# EAGLE library part OPAMP-DISCRETE-DOA (library ryans-common-components)
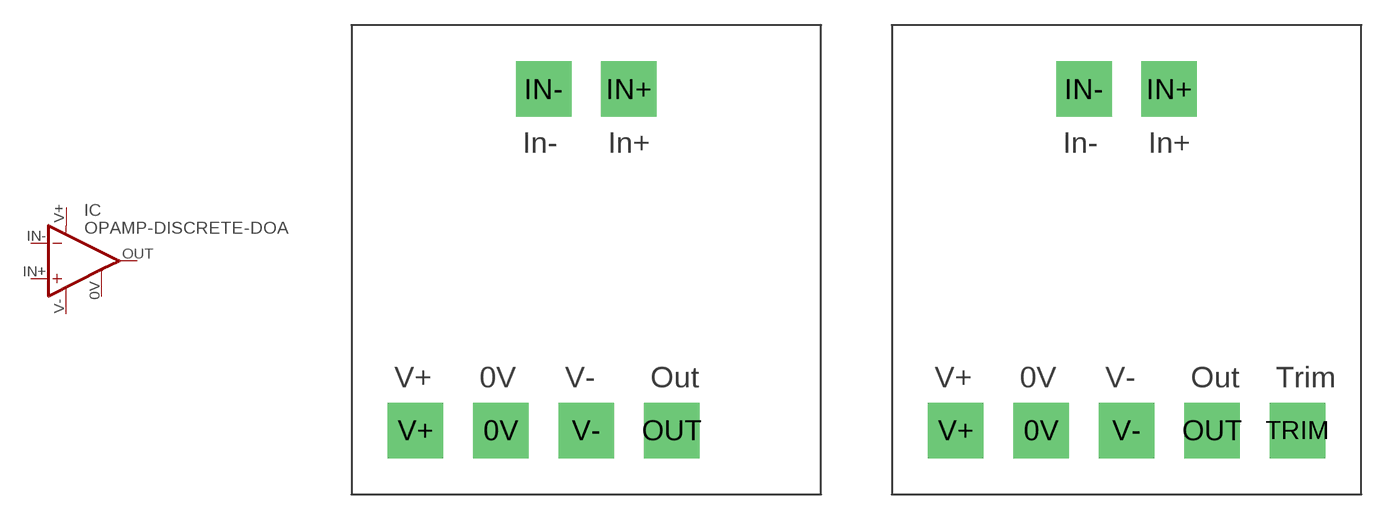
[diagram p4: symbol with the pads of DOA-SOCKET; footprints DOA-SOCKET, DOA-W/TRIM-SOCKET]

Designator prefix IC

## OPAMP-DISCRETE-DOA-SOCKET  [DOA-SOCKET]
0V  0V
IN+  IN+
IN-  IN-
OUT  OUT
V+  V+
V-  V-

## OPAMP-DISCRETE-DOA-SOCKET-W/TRIM-PIN  [DOA-W/TRIM-SOCKET]
Pads as for DOA-SOCKET

## Footprint DOA-SOCKET (pad centres in mm)
drill 2.286 square: 0V -5.08,-10.16; IN+ 2.54,10.16; IN- -2.54,10.16; OUT 5.08,-10.16; V+ -10.16,-10.16; V- 0,-10.16

## Footprint DOA-W/TRIM-SOCKET (pad centres in mm)
drill 2.286 square: 0V -5.08,-10.16; IN+ 2.54,10.16; IN- -2.54,10.16; OUT 5.08,-10.16; TRIM 10.16,-10.16; V+ -10.16,-10.16; V- 0,-10.16